# EAGLE library part LTC3412A (library PowerProducts)
LT-Spice library generated with : ltspice.ulp from: D:/Program Files (x86)/LTC/LTspiceIV/lib/sym/PowerProducts/LTC3413*.asy at 07.10.2012 18:03:33
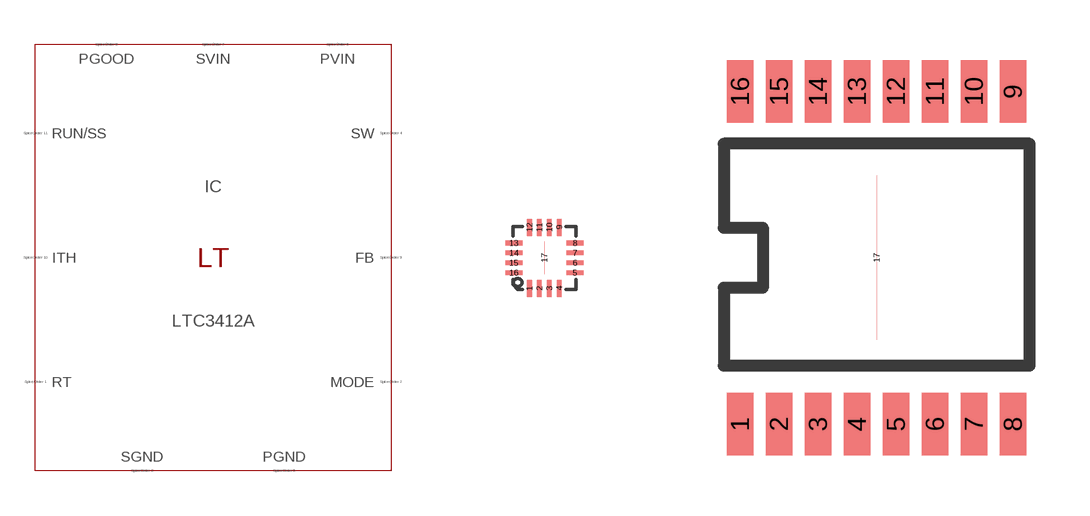
[diagram p172: symbol with the pads of QFN16(UF); footprints QFN16(UF), TSSOP16BA(FE)]

Designator prefix IC

## LTC3412AUF (SPICEMODEL: LTC3412A.sub; SPICEPREFIX: X; VALUE2: LTC3412A)  [QFN16(UF)]
1  RUN/SS  pas
2  SGND  pas
3  PVIN  pas
4  SW  pas
5  SW  pas
6  PGND  pas
7  PGND  pas
8  SW  pas
9  SW  pas
10  PVIN  pas
11  SVIN  pas
12  PGOOD  pas
13  ITH  pas
14  FB  pas
15  RT  pas
16  MODE  pas
17  SGND  pas

## LTC3412A (SPICEMODEL: LTC3412A.sub; SPICEPREFIX: X; VALUE2: LTC3412A)  [TSSOP16BA(FE)]
1  SVIN  pas
2  PGOOD  pas
3  ITH  pas
4  FB  pas
5  RT  pas
6  MODE  pas
7  RUN/SS  pas
8  SGND  pas
9  PVIN  pas
10  SW  pas
11  SW  pas
12  PGND  pas
13  PGND  pas
14  SW  pas
15  SW  pas
16  PVIN  pas
17  SGND  pas

## Footprint QFN16(UF) (pad centres in mm)
Package generated from: QFN16(UF).asc (!PADS-POWERPCB-V9.3-BASIC! DESIGN DATABASE ASCII FILE 1.0) with :import-pads-powerpcb-v5.ulp Version 1.0.1 at 04.10.2012 14:11:23
smd 0.116 x 0.426: 1 -0.371,-0.764; 2 -0.124,-0.764; 3 0.124,-0.764; 4 0.371,-0.764; 9 0.371,0.764; 10 0.124,0.764; 11 -0.124,0.764; 12 -0.371,0.764
smd 0.426 x 0.116: 5 0.764,-0.371; 6 0.764,-0.124; 7 0.764,0.124; 8 0.764,0.371; 13 -0.764,0.371; 14 -0.764,0.124; 15 -0.764,-0.124; 16 -0.764,-0.371
smd 0 x 0.819: 17 0,0

## Footprint TSSOP16BA(FE) (pad centres in mm)
Package generated from: TSSOP16BA(FE).asc (!PADS-POWERPCB-V5.0-BASIC! DESIGN DATABASE ASCII FILE 1.0) with :import-pads-powerpcb-v5.ulp Version 1.0.1 at 04.10.2012 14:11:39
smd 0.66 x 1.575: 1 -3.413,-4.162; 2 -2.438,-4.162; 3 -1.462,-4.162; 4 -0.487,-4.162; 5 0.487,-4.162; 6 1.462,-4.162; 7 2.438,-4.162; 8 3.413,-4.162; 9 3.413,4.162; 10 2.438,4.162; 11 1.462,4.162; 12 0.487,4.162; 13 -0.487,4.162; 14 -1.462,4.162; 15 -2.438,4.162; 16 -3.413,4.162
smd 0 x 4.11: 17 0,0